# Altium schematic symbol library LM75.SchLib: 1 symbol
Pins are listed as number, name and electrical type; pins without a type are passive.

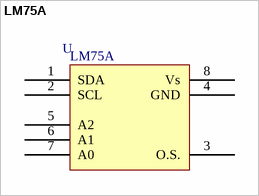
[diagram p0: symbol LM75A]

## LM75A
designator U  value LM75A  (hidden comment: *)
Manufacturer Code: LM75AIM/NOPB; Manufacturer: Texas Instruments; Voltage Max.: 5.5V; Voltage Min.: 2.7V; Accuracy: ±2°C; Farnell Code: 1696578; Unit Price: 1,38 €; MOQ: 1
footprint SO8
pins: 1 SDA, 2 SCL, 3 O.S., 4 GND, 5 A2, 6 A1, 7 A0, 8 Vs